# Altium integrated library 06033C474KAT2A.IntLib: 1 symbol
Pins are listed as number, name and electrical type; pins without a type are passive.

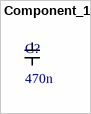
[diagram p0: symbol Component_1]

## Component_1
designator C?, comment 470n
PCB layout:: 0603; Buying URL:: https://uk.farnell.com/avx/06033c474kat2a/cap-0-47-f-25v-10-x7r-0603/dp/1867949?st=470n%200603
footprint *CAPC1608X85N
pins: 1, 2